# EAGLE library part MAX4460 (library amplifiers)
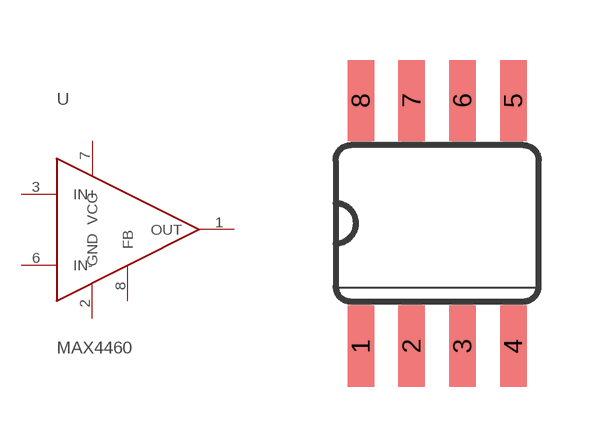
[diagram p0: symbol with the pads of SO08; footprint SO08]

Designator prefix -

## MAX4460  [SO08]
1  OUT
2  GND
3  IN+
6  IN-
7  VCC
8  FB

## Footprint SO08 (pad centres in mm)
Small Outline Package SOIC 150 mil
smd 0.66 x 2.032: 1 -1.905,-3.073; 2 -0.635,-3.073; 3 0.635,-3.073; 4 1.905,-3.073; 5 1.905,3.073; 6 0.635,3.073; 7 -0.635,3.073; 8 -1.905,3.073